# EAGLE library part XPORT (library lantronix)
XPORT 10/100Mbit Ethernet to Serial Interface
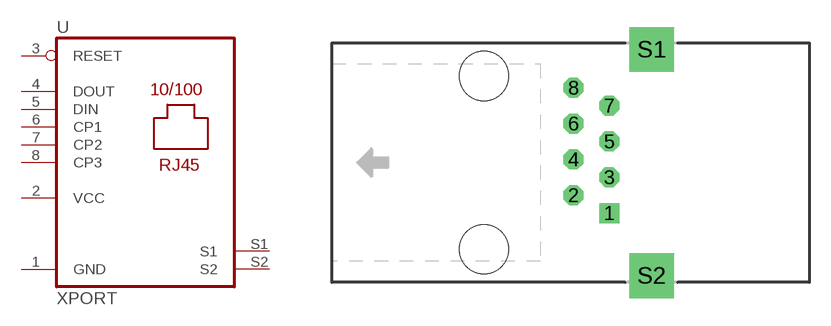
[diagram p0: symbol with the pads of XPORT; footprint XPORT]

Designator prefix U

## XPORT  [XPORT]
1  GND  pwr
2  VCC  pwr
3  RESET  in
4  DOUT  out
5  DIN  in
6  CP1
7  CP2
8  CP3
S1  S1  pas
S2  S2  pas

## Footprint XPORT (pad centres in mm)
XPORT Module
drill 0.914 square: 1 8.89,-3.58
drill 0.914 octagon: 2 6.35,-2.31; 3 8.89,-1.04; 4 6.35,0.23; 5 8.89,1.5; 6 6.35,2.77; 7 8.89,4.04; 8 6.35,5.31
drill 1.676 pad 3.175 square: S1 11.9,8.025; S2 11.9,-8.025
hole 3.5 at 0,6.15
hole 3.5 at 0,-6.15